# Altium footprint library AdamsParts.PcbLib: 238 footprints (part 5 of 15)
Each footprint in its own frame and in the unit in brackets; x right, y up, seen from the top. Pads: shape width x height; smd on the part's side, far side on the other; paste and mask are expansions set on the pad; w line width, h text height; cw(c..) or ccw(c..) is an arc to the next point about the centre after c.
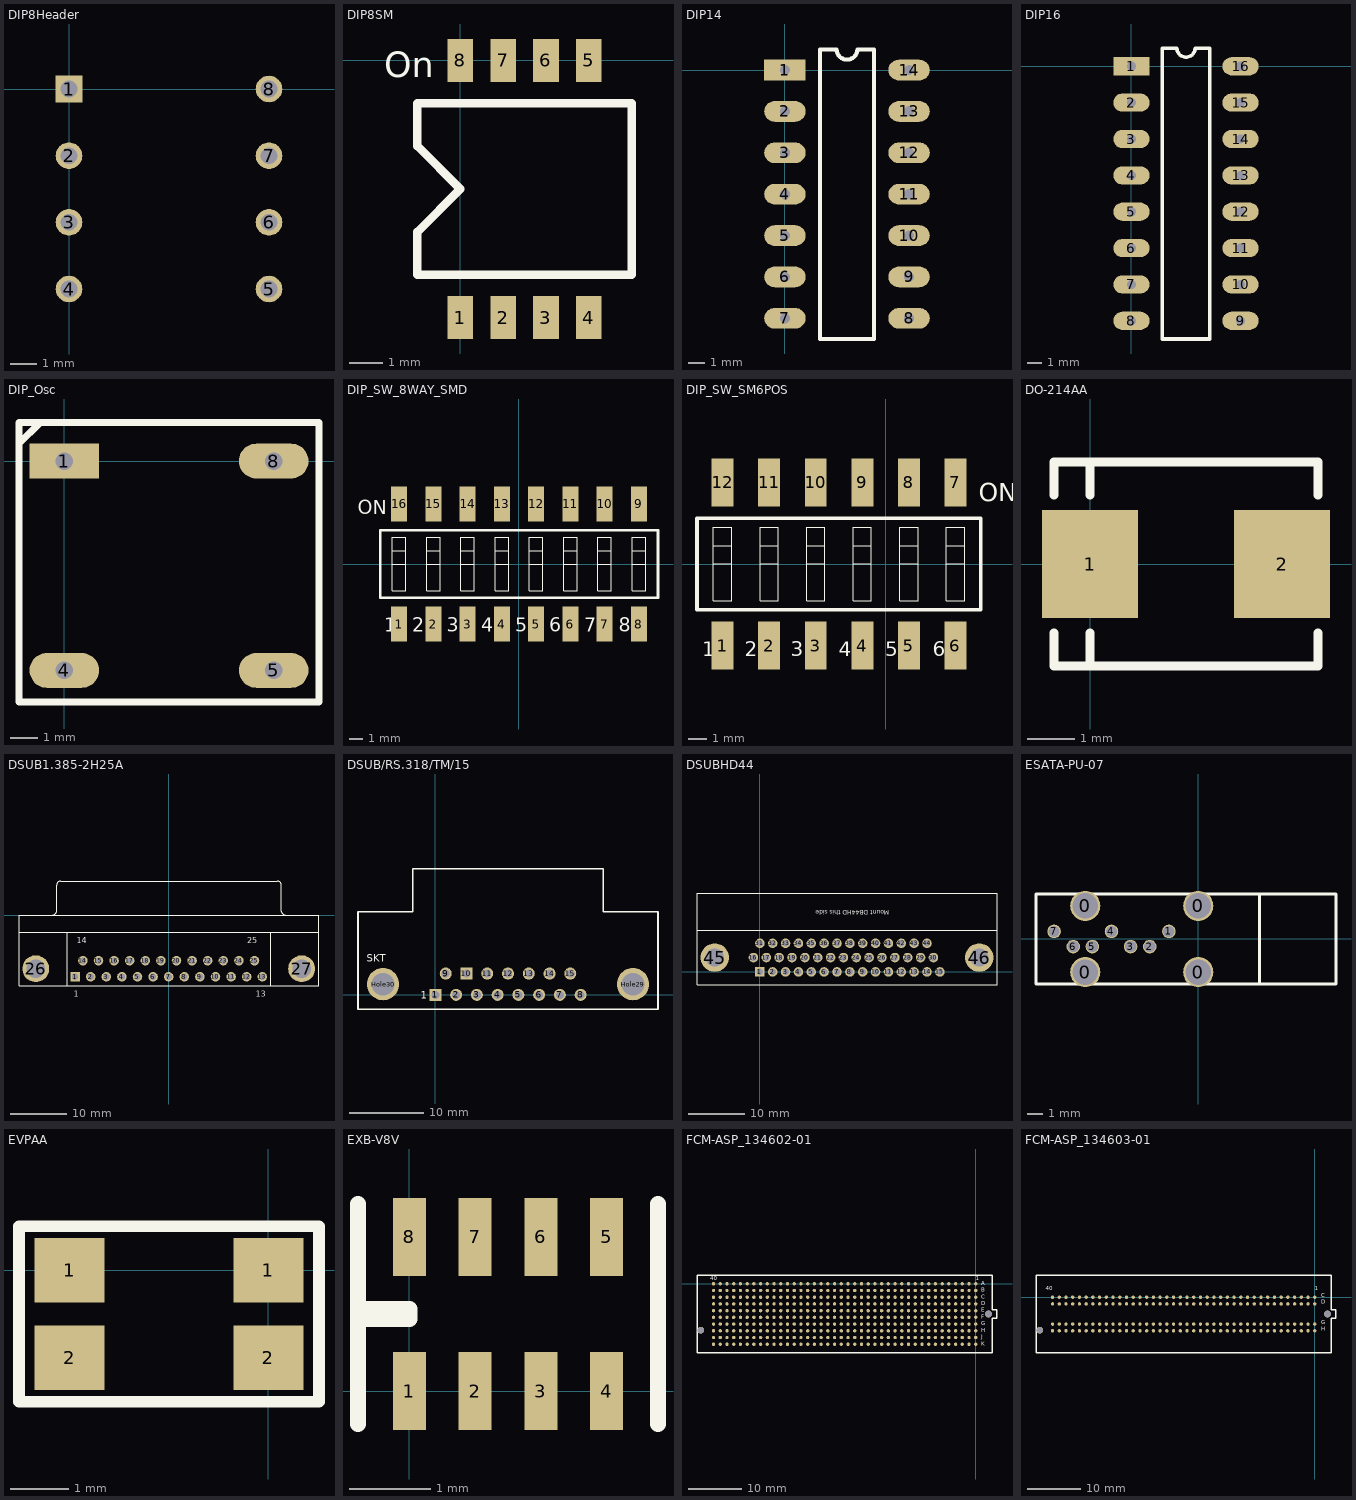
[diagram p4: the footprints below, top view; thin cyan lines are the x and y axes]

## DIP8Header [mil] "8 PIN DIP HEADER"
pads (8):
  rect 40x40 hole 25: 1(0,0)
  round 40 hole 25: 2(0,-100) 3(0,-200) 4(0,-300) 5(300,-300) 6(300,-200) 7(300,-100) 8(300,0)
Bottom Overlay:
  lines w7.87: -50,21 4,75 ; -50,-375 -50,75 350,75 350,-375 -50,-375

## DIP8SM [mm] "Surface Mount DIP 8 package"
pads (8):
  rect 0.76x1.27 smd: 1(0,-7.62) 2(1.27,-7.62) 3(2.54,-7.62) 4(3.81,-7.62) 5(3.81,0) 6(2.54,0) 7(1.27,0) 8(0,0)
Top Overlay:
  lines w0.254: -1.27,-6.35 5.08,-6.35 5.08,-1.27 -1.27,-1.27 -1.27,-2.54 0,-3.81 -1.27,-5.08 -1.27,-6.35
  text "On" at -2.25,-0.5 h0.76

## DIP14 [mm]
pads (14):
  rect 2.54x1.27 hole 0.635: 1(0,0)
  oval 2.54x1.27 hole 0.635: 2(0,-2.54) 3(0,-5.08) 4(0,-7.62) 5(0,-10.16) 6(0,-12.7) 7(0,-15.24) 8(7.62,-15.24) 9(7.62,-12.7) 10(7.62,-10.16) 11(7.62,-7.62) 12(7.62,-5.08) 13(7.62,-2.54) 14(7.62,0)
Top Overlay:
  lines w0.254: 2.159,-16.51 5.461,-16.51 5.461,1.27 4.445,1.27 cw(c3.81,1.27) 3.175,1.27 2.159,1.27 2.159,-16.51

## DIP16 [mm]
pads (16):
  rect 2.54x1.27 hole 0.635: 1(0,0)
  oval 2.54x1.27 hole 0.635: 2(0,-2.54) 3(0,-5.08) 4(0,-7.62) 5(0,-10.16) 6(0,-12.7) 7(0,-15.24) 8(0,-17.78) 9(7.62,-17.78) 10(7.62,-15.24) 11(7.62,-12.7) 12(7.62,-10.16) 13(7.62,-7.62) 14(7.62,-5.08) 15(7.62,-2.54) 16(7.62,0)
Top Overlay:
  lines w0.254: 2.159,-19.05 2.159,1.27 3.175,1.27 ccw(c3.81,1.27) 4.445,1.27 5.461,1.27 5.461,-19.05 2.159,-19.05

## DIP_Osc [mm]
pads (4):
  rect 2.54x1.27 hole 0.635: 1(0,0)
  oval 2.54x1.27 hole 0.635: 4(0,-7.62) 5(7.62,-7.62) 8(7.62,0)
Top Overlay:
  lines w0.254: -1.651,0.635 -0.889,1.397 ; -1.651,-8.763 -1.651,1.397 9.271,1.397 9.271,-8.763 -1.651,-8.763

## DIP_SW_8WAY_SMD [mm]
pads (16):
  rect 1.2x2.6 smd: 1(-8.89,-4.45) 2(-6.35,-4.45) 3(-3.81,-4.45) 4(-1.27,-4.45) 5(1.27,-4.45) 6(3.81,-4.45) 7(6.35,-4.45) 8(8.89,-4.45) 9(8.89,4.45) 10(6.35,4.45) 11(3.81,4.45) 12(1.27,4.45) 13(-1.27,4.45) 14(-3.81,4.45) 15(-6.35,4.45) 16(-8.89,4.45)
Top Overlay:
  lines w0.025: -9.39,0 -8.39,0 ; -9.39,1 -8.39,1 ; -6.85,0 -5.85,0 ; -6.85,1 -5.85,1 ; -4.31,0 -3.31,0 ; -4.31,1 -3.31,1 ; -1.77,0 -0.77,0 ; -1.77,1 -0.77,1 ; 0.77,0 1.77,0 ; 0.77,1 1.77,1 ; 3.31,0 4.31,0 ; 3.31,1 4.31,1 ; 5.85,0 6.85,0 ; 5.85,1 6.85,1 ; 8.39,0 9.39,0 ; 8.39,1 9.39,1 ; -9.39,-2 -9.39,2 -8.39,2 -8.39,-2 -9.39,-2 ; -6.85,-2 -6.85,2 -5.85,2 -5.85,-2 -6.85,-2 ; -4.31,-2 -4.31,2 -3.31,2 -3.31,-2 -4.31,-2 ; -1.77,-2 -1.77,2 -0.77,2 -0.77,-2 -1.77,-2 ; 0.77,-2 0.77,2 1.77,2 1.77,-2 0.77,-2 ; 3.31,-2 3.31,2 4.31,2 4.31,-2 3.31,-2 ; 5.85,-2 5.85,2 6.85,2 6.85,-2 5.85,-2 ; 8.39,-2 8.39,2 9.39,2 9.39,-2 8.39,-2
  lines w0.2: -10.29,-2.5 -10.29,2.5 10.31,2.5 10.31,-2.5 -10.29,-2.5
  text "6" at 2.261,-5.029 h1.02
  text "5" at -0.279,-5.029 h1.02
  text "4" at -2.794,-5.029 h1.02
  text "3" at -5.359,-5.029 h1.02
  text "2" at -7.899,-5.029 h1.02
  text "1" at -10.006,-5.032 h1.02
  text "ON" at -11.938,3.678 h1.02
  text "7" at 4.826,-5.029 h1.02
  text "8" at 7.417,-5.029 h1.02

## DIP_SW_SM6POS [mm]
pads (12):
  rect 1.2x2.6 smd: 1(-8.89,-4.45) 2(-6.35,-4.45) 3(-3.81,-4.45) 4(-1.27,-4.45) 5(1.27,-4.45) 6(3.81,-4.45) 7(3.81,4.45) 8(1.27,4.45) 9(-1.27,4.45) 10(-3.81,4.45) 11(-6.35,4.45) 12(-8.89,4.45)
Top Overlay:
  lines w0.025: -9.39,0 -8.39,0 ; -9.39,1 -8.39,1 ; -6.85,0 -5.85,0 ; -6.85,1 -5.85,1 ; -4.31,0 -3.31,0 ; -4.31,1 -3.31,1 ; -1.77,0 -0.77,0 ; -1.77,1 -0.77,1 ; 0.77,0 1.77,0 ; 0.77,1 1.77,1 ; 3.31,0 4.31,0 ; 3.31,1 4.31,1 ; -9.39,-2 -9.39,2 -8.39,2 -8.39,-2 -9.39,-2 ; -6.85,-2 -6.85,2 -5.85,2 -5.85,-2 -6.85,-2 ; -4.31,-2 -4.31,2 -3.31,2 -3.31,-2 -4.31,-2 ; -1.77,-2 -1.77,2 -0.77,2 -0.77,-2 -1.77,-2 ; 0.77,-2 0.77,2 1.77,2 1.77,-2 0.77,-2 ; 3.31,-2 3.31,2 4.31,2 4.31,-2 3.31,-2
  lines w0.2: -10.29,-2.5 -10.29,2.5 5.2,2.5 5.2,-2.5 -10.29,-2.5
  text "6" at 2.569,-5.032 h0.8
  text "5" at -0.031,-5.032 h0.8
  text "4" at -2.556,-5.032 h0.8
  text "3" at -5.181,-5.032 h0.8
  text "2" at -7.681,-5.032 h0.8
  text "1" at -10.006,-5.032 h0.8
  text "ON" at 5.08,3.429 h1

## DO-214AA [mil]
pads (2):
  rect 80x90 smd: 1(0,0) 2(160,0)
Top Overlay:
  lines w7.87: -30,-57.5 -30,-85 190,-85 190,-57.5 ; -30,57.5 -30,85 190,85 190,57.5 ; 0,-85 0,-57.5 ; 0,57.5 0,85

## DSUB1.385-2H25A [mm]
pads (27):
  rect 1.69x1.69 hole 1.09: 1(-16.566,-10.92)
  round 1.69 hole 1.09: 2(-13.805,-10.92) 3(-11.044,-10.92) 4(-8.283,-10.92) 5(-5.522,-10.92) 6(-2.761,-10.92) 7(0,-10.92) 8(2.761,-10.92) 9(5.522,-10.92) 10(8.283,-10.92) 11(11.044,-10.92) 12(13.805,-10.92) 13(16.566,-10.92) 14(-15.185,-8.08) 15(-12.425,-8.08) 16(-9.663,-8.08) 17(-6.903,-8.08) 18(-4.142,-8.08) 19(-1.38,-8.08) 20(1.38,-8.08) 21(4.142,-8.08) 22(6.903,-8.08) 23(9.663,-8.08) 24(12.425,-8.08) 25(15.185,-8.08)
  round 4.76 hole 3.26: 26(-23.526,-9.5) 27(23.526,-9.5)
Top Overlay:
  lines w0.2: -26.496,-3 26.604,-3 ; -20.541,0.005 ccw(c-20.541,0.7) -19.846,0.7 -19.846,5.3 ; -19.841,5.305 cw(c-19.146,5.305) -19.146,6 19.254,6 cw(c19.254,5.305) 19.949,5.305 ; -17.946,-12.5 -17.946,-3 ; 18.054,-12.5 18.054,-3 ; 19.954,5.3 19.954,0.7 ccw(c20.649,0.7) 20.649,0.005 ; -26.496,-12.5 -26.496,0 26.604,0 26.604,-12.5 -26.496,-12.5
  text "25" at 13.936,-4.975 h1.02
  text "14" at -16.31,-4.975 h1.02
  text "13" at 15.441,-14.475 h1.02
  text "1" at -16.816,-14.475 h1.02

## DSUB/RS.318/TM/15 [mil]
pads (17):
  rect 63x63 hole 42: 1(0.47,0.25) 10(163.97,112.25)
  round 63 hole 42: 2(109.47,0.25) 3(218.47,0.25) 4(327.47,0.25) 5(436.47,0.25) 6(545.47,0.25) 7(654.47,0.25) 8(763.47,0.25) 9(54.97,112.25) 11(272.97,112.25) 12(381.97,112.25) 13(490.97,112.25) 14(599.97,112.25) 15(708.97,112.25)
  round 170 hole 120: Hole29(1037.97,56.25) Hole30(-274.03,56.25)
Top Overlay:
  lines w8: -405.53,-75.25 1169.47,-75.25 1169.47,437.25 881.97,437.25 881.97,662.25 -118.03,662.25 -118.03,437.25 -405.53,437.25 -405.53,-75.25
  text "SKT" at -360.2,175.13 h37.5
  text "1" at -77.03,-19.75 h37.5
Bottom Overlay:
  text "9" at 43.08,211.63 h37.5
  text "8" at 838.08,-33.38 h37.5
  text "15" at 744.18,151.63 h37.5

## DSUBHD44 [mm]
pads (46):
  rect 1.69x1.69 hole 1.143: 1(0,0)
  round 1.69 hole 1.143: 2(2.286,0) 3(4.572,0) 4(6.858,0) 5(9.144,0) 6(11.43,0) 7(13.716,0) 8(16.002,0) 9(18.288,0) 10(20.574,0) 11(22.86,0) 12(25.146,0) 13(27.432,0) 14(29.718,0) 15(32.004,0) 16(-1.143,2.54) 17(1.143,2.54) 18(3.429,2.54) 19(5.715,2.54) 20(8.001,2.54) 21(10.287,2.54) 22(12.573,2.54) 23(14.859,2.54) 24(17.145,2.54) 25(19.431,2.54) 26(21.717,2.54) 27(24.003,2.54) 28(26.289,2.54) 29(28.575,2.54) 30(30.861,2.54) 31(0,5.08) 32(2.286,5.08) 33(4.572,5.08) 34(6.858,5.08) 35(9.144,5.08) 36(11.43,5.08) 37(13.716,5.08) 38(16.002,5.08) 39(18.288,5.08) 40(20.574,5.08) 41(22.86,5.08) 42(25.146,5.08) 43(27.432,5.08) 44(29.718,5.08)
  round 5.08 hole 3.251: 45(-8.026,2.54) 46(39.014,2.54)
Top Overlay:
  lines w0.2: -11.176,7.366 42.164,7.366 42.164,13.97 -11.176,13.97 -11.176,7.239 -11.176,-2.286 42.164,-2.286 42.164,7.293
  text "Mount DB44HD this side" at 22.987,10.922 h0.76
Bottom Overlay:
  text "31" at -1.714,4.445 h1.5
  text "44" at 33.909,4.508 h1.5
  text "15" at 35.941,-0.699 h1.5
  text "1" at -1.587,-0.699 h1.5

## ESATA-PU-07 [mm] "eSATA connector FCIconnect 10074141-001LF"
height 18
pads (11):
  round 2 hole 1.7: 0(-7.5,-2.2) 0(-7.5,2.2) 0(0,-2.2) 0(0,2.2)
  round 0.9 hole 0.75: 1(-1.95,0.5) 2(-3.22,-0.5) 3(-4.49,-0.5) 4(-5.76,0.5) 5(-7.03,-0.5) 6(-8.3,-0.5) 7(-9.57,0.5)
Top Overlay:
  lines w0.2: 4.05,-3 4.05,3 ; -10.77,-3 -10.77,3 9.144,3 9.144,-3 -10.77,-3

## EVPAA [mm]
pads (4):
  rect 1.2x1.1 smd: 1(-3.4,0) 1(0,0) 2(-3.4,-1.5) 2(0,-1.5)
Top Overlay:
  lines w0.2: -4.265,-2.25 -4.265,0.75 0.865,0.75 0.865,-2.25 -4.265,-2.25

## EXB-V8V [mil]
pads (8):
  rect 16x38 smd: 1(0,0) 2(32,0) 3(64,0) 4(96,0) 5(96,75) 6(64,75) 7(32,75) 8(0,75)
Top Overlay:
  lines w7.87: -25,-16 -25,91 ; -25,35 0,35 0,40 -25,40 ; 121,-16 121,91

## FCM-ASP_134602-01 [mil] "400pin FCM connector VITA"
pads (402):
  round 25 smd: A1(0,0) A2(-50,0) A3(-100,0) A4(-150,0) A5(-200,0) A6(-250,0) A7(-300,0) A8(-350,0) A9(-400,0) A10(-450,0) A11(-500,0) A12(-550,0) A13(-600,0) A14(-650,0) A15(-700,0) A16(-750,0) A17(-800,0) A18(-850,0) A19(-900,0) A20(-950,0) A21(-1000,0) A22(-1050,0) A23(-1100,0) A24(-1150,0) A25(-1200,0) A26(-1250,0) A27(-1300,0) A28(-1350,0) A29(-1400,0) A30(-1450,0) A31(-1500,0) A32(-1550,0) A33(-1600,0) A34(-1650,0) A35(-1700,0) A36(-1750,0) A37(-1800,0) A38(-1850,0) A39(-1900,0) A40(-1950,0) B1(0,-50) B2(-50,-50) B3(-100,-50) B4(-150,-50) B5(-200,-50) B6(-250,-50) B7(-300,-50) B8(-350,-50) B9(-400,-50) B10(-450,-50) B11(-500,-50) B12(-550,-50) B13(-600,-50) B14(-650,-50) B15(-700,-50) B16(-750,-50) B17(-800,-50) B18(-850,-50) B19(-900,-50) B20(-950,-50) B21(-1000,-50) B22(-1050,-50) B23(-1100,-50) B24(-1150,-50) B25(-1200,-50) B26(-1250,-50) B27(-1300,-50) B28(-1350,-50) B29(-1400,-50) B30(-1450,-50) B31(-1500,-50) B32(-1550,-50) B33(-1600,-50) B34(-1650,-50) B35(-1700,-50) B36(-1750,-50) B37(-1800,-50) B38(-1850,-50) B39(-1900,-50) B40(-1950,-50) C1(0,-100) C2(-50,-100) C3(-100,-100) C4(-150,-100) C5(-200,-100) C6(-250,-100) C7(-300,-100) C8(-350,-100) C9(-400,-100) C10(-450,-100) C11(-500,-100) C12(-550,-100) C13(-600,-100) C14(-650,-100) C15(-700,-100) C16(-750,-100) C17(-800,-100) C18(-850,-100) C19(-900,-100) C20(-950,-100) C21(-1000,-100) C22(-1050,-100) C23(-1100,-100) C24(-1150,-100) C25(-1200,-100) C26(-1250,-100) C27(-1300,-100) C28(-1350,-100) C29(-1400,-100) C30(-1450,-100) C31(-1500,-100) C32(-1550,-100) C33(-1600,-100) C34(-1650,-100) C35(-1700,-100) C36(-1750,-100) C37(-1800,-100) C38(-1850,-100) C39(-1900,-100) C40(-1950,-100) D1(0,-150) D2(-50,-150) D3(-100,-150) D4(-150,-150) D5(-200,-150) D6(-250,-150) D7(-300,-150) D8(-350,-150) D9(-400,-150) D10(-450,-150) D11(-500,-150) D12(-550,-150) D13(-600,-150) D14(-650,-150) D15(-700,-150) D16(-750,-150) D17(-800,-150) D18(-850,-150) D19(-900,-150) D20(-950,-150) D21(-1000,-150) D22(-1050,-150) D23(-1100,-150) D24(-1150,-150) D25(-1200,-150) D26(-1250,-150) D27(-1300,-150) D28(-1350,-150) D29(-1400,-150) D30(-1450,-150) D31(-1500,-150) D32(-1550,-150) D33(-1600,-150) D34(-1650,-150) D35(-1700,-150) D36(-1750,-150) D37(-1800,-150) D38(-1850,-150) D39(-1900,-150) D40(-1950,-150) E1(0,-200) E2(-50,-200) E3(-100,-200) E4(-150,-200) E5(-200,-200) E6(-250,-200) E7(-300,-200) E8(-350,-200) E9(-400,-200) E10(-450,-200) E11(-500,-200) E12(-550,-200) E13(-600,-200) E14(-650,-200) E15(-700,-200) E16(-750,-200) E17(-800,-200) E18(-850,-200) E19(-900,-200) E20(-950,-200) E21(-1000,-200) E22(-1050,-200) E23(-1100,-200) E24(-1150,-200) E25(-1200,-200) E26(-1250,-200) E27(-1300,-200) E28(-1350,-200) E29(-1400,-200) E30(-1450,-200) E31(-1500,-200) E32(-1550,-200) E33(-1600,-200) E34(-1650,-200) E35(-1700,-200) E36(-1750,-200) E37(-1800,-200) E38(-1850,-200) E39(-1900,-200) E40(-1950,-200) F1(0,-250) F2(-50,-250) F3(-100,-250) F4(-150,-250) F5(-200,-250) F6(-250,-250) F7(-300,-250) F8(-350,-250) F9(-400,-250) F10(-450,-250) F11(-500,-250) F12(-550,-250) F13(-600,-250) F14(-650,-250) F15(-700,-250) F16(-750,-250) F17(-800,-250) F18(-850,-250) F19(-900,-250) F20(-950,-250) F21(-1000,-250) F22(-1050,-250) F23(-1100,-250) F24(-1150,-250) F25(-1200,-250) F26(-1250,-250) F27(-1300,-250) F28(-1350,-250) F29(-1400,-250) F30(-1450,-250) F31(-1500,-250) F32(-1550,-250) F33(-1600,-250) F34(-1650,-250) F35(-1700,-250) F36(-1750,-250) F37(-1800,-250) F38(-1850,-250) F39(-1900,-250) F40(-1950,-250) G1(0,-300) G2(-50,-300) G3(-100,-300) G4(-150,-300) G5(-200,-300) G6(-250,-300) G7(-300,-300) G8(-350,-300) G9(-400,-300) G10(-450,-300) G11(-500,-300) G12(-550,-300) G13(-600,-300) G14(-650,-300) G15(-700,-300) G16(-750,-300) G17(-800,-300) G18(-850,-300) G19(-900,-300) G20(-950,-300) G21(-1000,-300) G22(-1050,-300) G23(-1100,-300) G24(-1150,-300) G25(-1200,-300) G26(-1250,-300) G27(-1300,-300) G28(-1350,-300) G29(-1400,-300) G30(-1450,-300) G31(-1500,-300) G32(-1550,-300) G33(-1600,-300) G34(-1650,-300) G35(-1700,-300) G36(-1750,-300) G37(-1800,-300) G38(-1850,-300) G39(-1900,-300) G40(-1950,-300) H1(0,-350) H2(-50,-350) H3(-100,-350) H4(-150,-350) H5(-200,-350) H6(-250,-350) H7(-300,-350) H8(-350,-350) H9(-400,-350) H10(-450,-350) H11(-500,-350) H12(-550,-350) H13(-600,-350) H14(-650,-350) H15(-700,-350) H16(-750,-350) H17(-800,-350) H18(-850,-350) H19(-900,-350) H20(-950,-350) H21(-1000,-350) H22(-1050,-350) H23(-1100,-350) H24(-1150,-350) H25(-1200,-350) H26(-1250,-350) H27(-1300,-350) H28(-1350,-350) H29(-1400,-350) H30(-1450,-350) H31(-1500,-350) H32(-1550,-350) H33(-1600,-350) H34(-1650,-350) H35(-1700,-350) H36(-1750,-350) H37(-1800,-350) H38(-1850,-350) H39(-1900,-350) H40(-1950,-350) J1(0,-400) J2(-50,-400) J3(-100,-400) J4(-150,-400) J5(-200,-400) J6(-250,-400) J7(-300,-400) J8(-350,-400) J9(-400,-400) J10(-450,-400) J11(-500,-400) J12(-550,-400) J13(-600,-400) J14(-650,-400) J15(-700,-400) J16(-750,-400) J17(-800,-400) J18(-850,-400) J19(-900,-400) J20(-950,-400) J21(-1000,-400) J22(-1050,-400) J23(-1100,-400) J24(-1150,-400) J25(-1200,-400) J26(-1250,-400) J27(-1300,-400) J28(-1350,-400) J29(-1400,-400) J30(-1450,-400) J31(-1500,-400) J32(-1550,-400) J33(-1600,-400) J34(-1650,-400) J35(-1700,-400) J36(-1750,-400) J37(-1800,-400) J38(-1850,-400) J39(-1900,-400) J40(-1950,-400) K1(0,-450) K2(-50,-450) K3(-100,-450) K4(-150,-450) K5(-200,-450) K6(-250,-450) K7(-300,-450) K8(-350,-450) K9(-400,-450) K10(-450,-450) K11(-500,-450) K12(-550,-450) K13(-600,-450) K14(-650,-450) K15(-700,-450) K16(-750,-450) K17(-800,-450) K18(-850,-450) K19(-900,-450) K20(-950,-450) K21(-1000,-450) K22(-1050,-450) K23(-1100,-450) K24(-1150,-450) K25(-1200,-450) K26(-1250,-450) K27(-1300,-450) K28(-1350,-450) K29(-1400,-450) K30(-1450,-450) K31(-1500,-450) K32(-1550,-450) K33(-1600,-450) K34(-1650,-450) K35(-1700,-450) K36(-1750,-450) K37(-1800,-450) K38(-1850,-450) K39(-1900,-450) K40(-1950,-450)
  round 50 hole 50: ""(-2045,-345) ""(95,-225)
Top Overlay:
  lines w10: -2073,-514 -2073,64 123,64 123,-195 158,-195 158,-255 123,-255 123,-514 -2073,-514
  text "40" at -1975,25 h30
  text "1" at 0,25 h30
  text "G" at 40,-310 h30
  text "F" at 40,-260 h30
  text "D" at 40,-160 h30
  text "C" at 40,-110 h30
  text "A" at 40,-10 h30
  text "B" at 40,-60 h30
  text "E" at 40,-210 h30
  text "H" at 40,-360 h30
  text "K" at 40,-460 h30
  text "J" at 40,-410 h30

## FCM-ASP_134603-01 [mil] "160pin FCM connector VITA"
pads (162):
  round 25 smd: C1(0,0) C2(-50,0) C3(-100,0) C4(-150,0) C5(-200,0) C6(-250,0) C7(-300,0) C8(-350,0) C9(-400,0) C10(-450,0) C11(-500,0) C12(-550,0) C13(-600,0) C14(-650,0) C15(-700,0) C16(-750,0) C17(-800,0) C18(-850,0) C19(-900,0) C20(-950,0) C21(-1000,0) C22(-1050,0) C23(-1100,0) C24(-1150,0) C25(-1200,0) C26(-1250,0) C27(-1300,0) C28(-1350,0) C29(-1400,0) C30(-1450,0) C31(-1500,0) C32(-1550,0) C33(-1600,0) C34(-1650,0) C35(-1700,0) C36(-1750,0) C37(-1800,0) C38(-1850,0) C39(-1900,0) C40(-1950,0) D1(0,-50) D2(-50,-50) D3(-100,-50) D4(-150,-50) D5(-200,-50) D6(-250,-50) D7(-300,-50) D8(-350,-50) D9(-400,-50) D10(-450,-50) D11(-500,-50) D12(-550,-50) D13(-600,-50) D14(-650,-50) D15(-700,-50) D16(-750,-50) D17(-800,-50) D18(-850,-50) D19(-900,-50) D20(-950,-50) D21(-1000,-50) D22(-1050,-50) D23(-1100,-50) D24(-1150,-50) D25(-1200,-50) D26(-1250,-50) D27(-1300,-50) D28(-1350,-50) D29(-1400,-50) D30(-1450,-50) D31(-1500,-50) D32(-1550,-50) D33(-1600,-50) D34(-1650,-50) D35(-1700,-50) D36(-1750,-50) D37(-1800,-50) D38(-1850,-50) D39(-1900,-50) D40(-1950,-50) G1(0,-200) G2(-50,-200) G3(-100,-200) G4(-150,-200) G5(-200,-200) G6(-250,-200) G7(-300,-200) G8(-350,-200) G9(-400,-200) G10(-450,-200) G11(-500,-200) G12(-550,-200) G13(-600,-200) G14(-650,-200) G15(-700,-200) G16(-750,-200) G17(-800,-200) G18(-850,-200) G19(-900,-200) G20(-950,-200) G21(-1000,-200) G22(-1050,-200) G23(-1100,-200) G24(-1150,-200) G25(-1200,-200) G26(-1250,-200) G27(-1300,-200) G28(-1350,-200) G29(-1400,-200) G30(-1450,-200) G31(-1500,-200) G32(-1550,-200) G33(-1600,-200) G34(-1650,-200) G35(-1700,-200) G36(-1750,-200) G37(-1800,-200) G38(-1850,-200) G39(-1900,-200) G40(-1950,-200) H1(0,-250) H2(-50,-250) H3(-100,-250) H4(-150,-250) H5(-200,-250) H6(-250,-250) H7(-300,-250) H8(-350,-250) H9(-400,-250) H10(-450,-250) H11(-500,-250) H12(-550,-250) H13(-600,-250) H14(-650,-250) H15(-700,-250) H16(-750,-250) H17(-800,-250) H18(-850,-250) H19(-900,-250) H20(-950,-250) H21(-1000,-250) H22(-1050,-250) H23(-1100,-250) H24(-1150,-250) H25(-1200,-250) H26(-1250,-250) H27(-1300,-250) H28(-1350,-250) H29(-1400,-250) H30(-1450,-250) H31(-1500,-250) H32(-1550,-250) H33(-1600,-250) H34(-1650,-250) H35(-1700,-250) H36(-1750,-250) H37(-1800,-250) H38(-1850,-250) H39(-1900,-250) H40(-1950,-250)
  round 50 hole 50: ""(-2045,-245) ""(95,-125)
Top Overlay:
  lines w10: -2073,-414 -2073,164 123,164 123,-95 158,-95 158,-155 123,-155 123,-414 -2073,-414
  text "40" at -2000,50 h30
  text "1" at 0,50 h30
  text "H" at 50,-250 h30
  text "G" at 50,-200 h30
  text "D" at 50,-50 h30
  text "C" at 50,0 h30